# Altium footprint library Leadless.PcbLib: 132 footprints (part 7 of 9)
Each footprint in its own frame and in the unit in brackets; x right, y up, seen from the top. Pads: shape width x height; smd on the part's side, far side on the other; paste and mask are expansions set on the pad; w line width, h text height; cw(c..) or ccw(c..) is an arc to the next point about the centre after c.
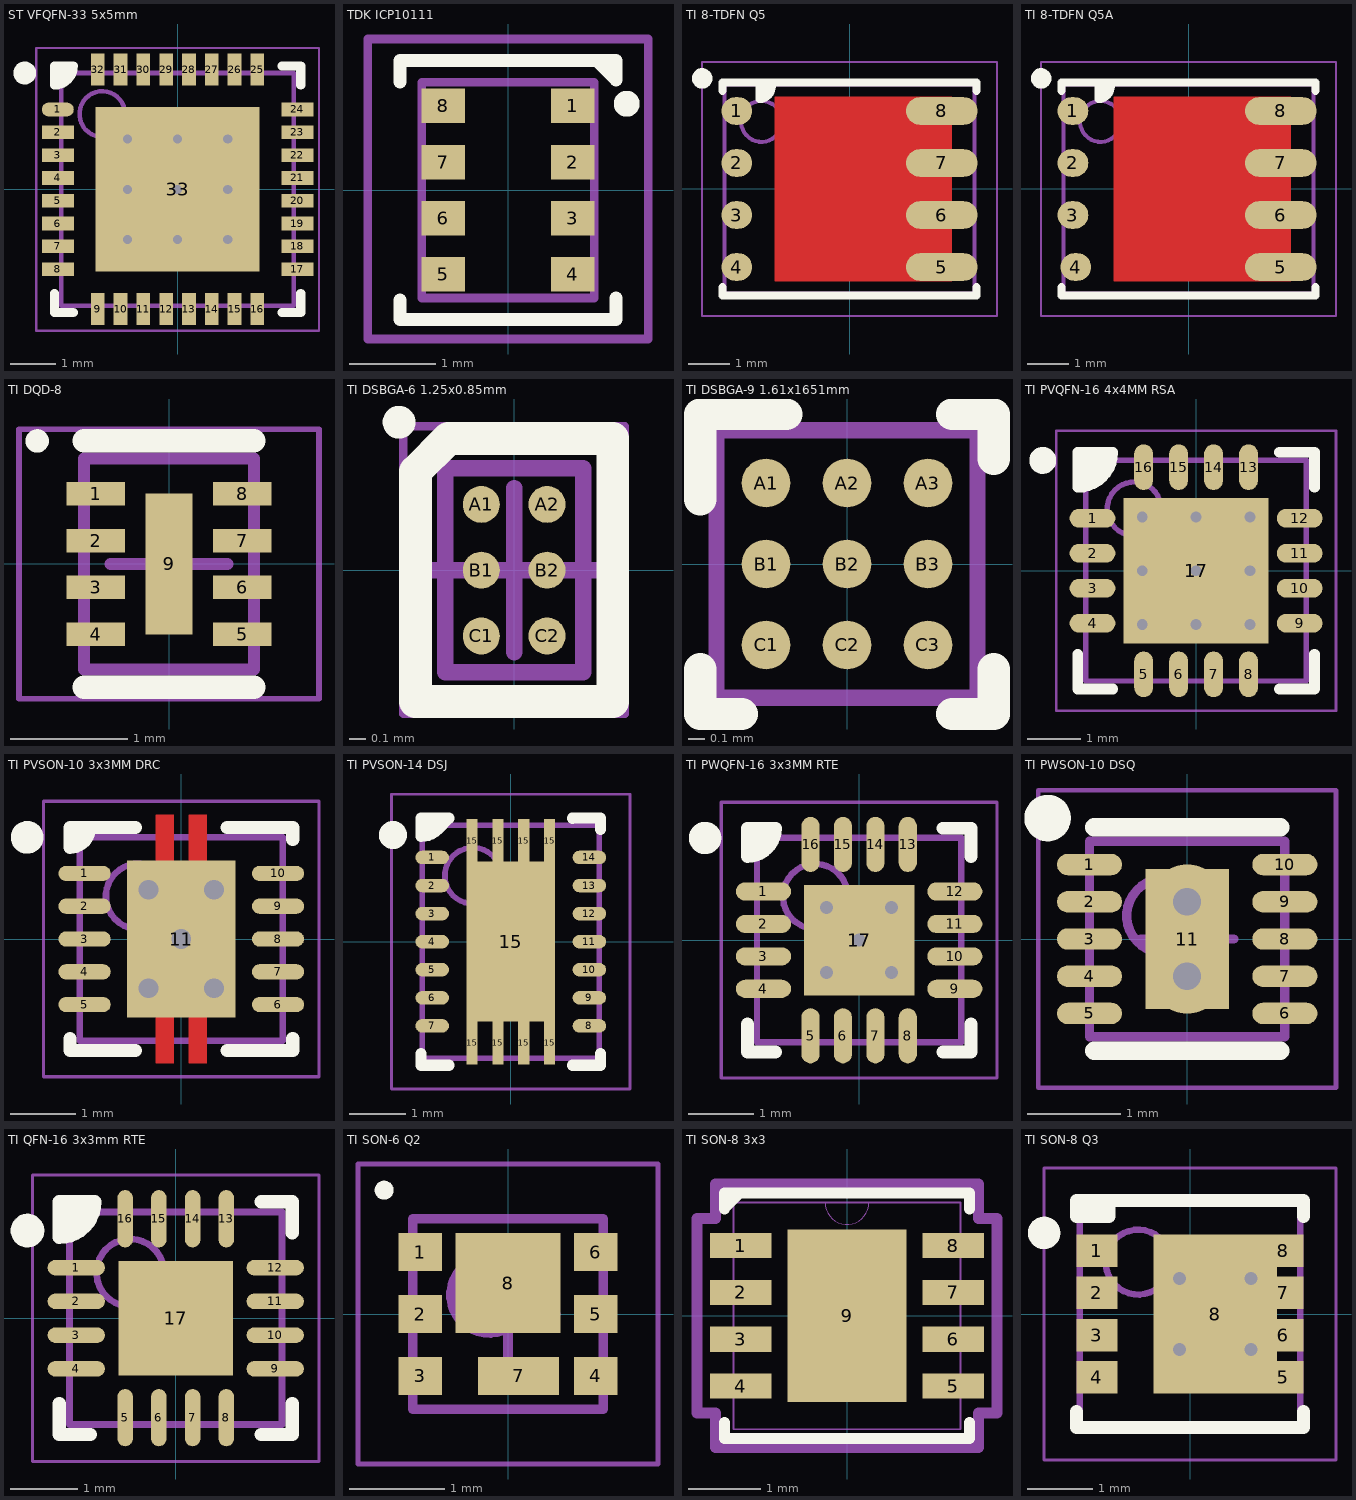
[diagram p6: the footprints below, top view; thin cyan lines are the x and y axes]

## ST VFQFN-33 5x5mm [mm] "QFN, 32-Leads, Body 5.00x5.00mm, Pitch 0.50mm, Thermal Pad 3.6x3.6mm, IPC Medium Density"
height 0.85
pads (33):
  oval 0.7x0.3 smd: 1(-2.625,1.75)
  rect 0.7x0.3 smd: 2(-2.625,1.25) 3(-2.625,0.75) 4(-2.625,0.25) 5(-2.625,-0.25) 6(-2.625,-0.75) 7(-2.625,-1.25) 8(-2.625,-1.75) 17(2.625,-1.75) 18(2.625,-1.25) 19(2.625,-0.75) 20(2.625,-0.25) 21(2.625,0.25) 22(2.625,0.75) 23(2.625,1.25) 24(2.625,1.75)
  rect 0.3x0.7 smd: 9(-1.75,-2.625) 10(-1.25,-2.625) 11(-0.75,-2.625) 12(-0.25,-2.625) 13(0.25,-2.625) 14(0.75,-2.625) 15(1.25,-2.625) 16(1.75,-2.625) 25(1.75,2.625) 26(1.25,2.625) 27(0.75,2.625) 28(0.25,2.625) 29(-0.25,2.625) 30(-0.75,2.625) 31(-1.25,2.625) 32(-1.75,2.625)
  rect 3.6x3.6 smd: 33(0,0)
via -1.1,1.1 diameter 0.5 hole 0.2
via 0,1.1 diameter 0.5 hole 0.2
via 1.1,1.1 diameter 0.5 hole 0.2
via -1.1,0 diameter 0.5 hole 0.2
via 0,0 diameter 0.5 hole 0.2
via 1.1,0 diameter 0.5 hole 0.2
via -1.1,-1.1 diameter 0.5 hole 0.2
via 0,-1.1 diameter 0.5 hole 0.2
via 1.1,-1.1 diameter 0.5 hole 0.2
Top Overlay:
  circle w0.25: c-3.35,2.55 r0.125
  region: -2.7,2.7 -2.285,2.7 -2.285,2.515 -2.515,2.285 -2.7,2.285
  lines w0.2: -2.7,-2.285 -2.7,-2.7 -2.285,-2.7 ; 2.285,-2.7 2.7,-2.7 2.7,-2.285 ; 2.285,2.7 2.7,2.7 2.7,2.285 ; -2.7,2.285 ccw(c-2.7,2.7) -2.285,2.7 -2.7,2.7 -2.7,2.285
Top Component Outline:
  circle w0.1: c-1.65,1.65 r0.5
  lines w0.1: -2.55,-2.55 -2.55,2.55 2.55,2.55 2.55,-2.55 -2.55,-2.55
Top Courtyard:
  lines w0.05: -3.1,-3.1 -3.1,3.1 3.1,3.1 3.1,-3.1 -3.1,-3.1
  lines w0.1: -0.5,0 0.5,0 ; 0,-0.5 0,0.5
3D body: height 0.85, standoff 0.01, extent -2.55,-2.55 2.55,2.55

## TDK ICP10111 [mm] "ICP-10110 and ICP-10111: 2x2.5x0.92 mm 8-pin LGA"
height 0.72
pads (8):
  rect 0.5x0.4 smd: 1(0.75,0.975) 2(0.75,0.325) 3(0.75,-0.325) 4(0.75,-0.975) 5(-0.75,-0.975) 6(-0.75,-0.325) 7(-0.75,0.325) 8(-0.75,0.975)
Top Overlay:
  lines w0.15: -1.25,1.25 -1.25,1.5 1.25,1.5 1.25,1.275 ; 1.25,-1.25 1.25,-1.5 -1.25,-1.5 -1.25,-1.275 ; -1.25,-1.275 -1.25,-1.275 ; -1.25,-1.275 -1.25,-1.275 ; 1.025,1.5 1.25,1.275 ; 1.025,1.5 1.025,1.5 ; 1.25,1.275 1.25,1.275 ; 1.25,1.275 1.25,1.275 ; -1.025,-1.5 -1.025,-1.5
  lines w0.2: 1.325,1 cw(c1.375,1) 1.425,1 cw(c1.375,1) 1.325,1
Top Component Outline:
  lines w0.1: -1,-1.25 -1,1.25 1,1.25 1,-1.25 -1,-1.25
Top Courtyard:
  lines w0.1: -1.625,-1.725 -1.625,1.75 1.625,1.75 1.625,-1.725 -1.625,-1.725
3D body "ICP-10111.stp": height 1.1, standoff 0, extent -1,-1.25 1,1.25

## TI 8-TDFN Q5 [mm] "TDFN, 8-Leads, Body 6.00x5.00mm, Pitch 1.27mm, Thermal Pad, IPC Medium Density"
height 1.05
pads (8):
  oval 0.75x0.675 smd: 1(-2.752,1.905) 2(-2.752,0.635) 3(-2.752,-0.635) 4(-2.752,-1.905)
  oval 1.75x0.675 smd: 5(2.253,-1.905) 6(2.253,-0.635) 7(2.253,0.635) 8(2.253,1.905)
Top Layer:
  region: -1.825,2.25 2.5,2.25 2.5,-2.25 -1.825,-2.25
Top Overlay:
  circle w0.25: c-3.6,2.7 r0.125
  region: -2.2,2.6 -2.2,2.2 -2.14,2.2 -2.03,2.246 -1.946,2.33 -1.9,2.44 -1.9,2.5 -1.9,2.6
  lines w0.2: -3.1,-2.4 -3.1,-2.6 3.1,-2.6 3.1,-2.4 ; -3.1,2.4 -3.1,2.6 3.1,2.6 3.1,2.4 ; -2.2,2.6 -2.2,2.2 ccw(c-2.2,2.5) -1.9,2.5 -1.9,2.6
Top Component Outline:
  circle w0.1: c-2.15,1.65 r0.5
  lines w0.1: -3.05,-2.55 3.05,-2.55 3.05,2.55 -3.05,2.55 -3.05,-2.55
Top Courtyard:
  lines w0.05: -3.6,-3.1 3.6,-3.1 3.6,3.1 -3.6,3.1 -3.6,-3.1
  lines w0.1: -0.5,0 0.5,0 ; 0,-0.5 0,0.5
3D body: height 1.05, standoff 0.01, extent -3.05,-2.55 3.05,2.55

## TI 8-TDFN Q5A [mm] "TDFN, 8-Leads, Body 6.00x5.00mm, Pitch 1.27mm, Thermal Pad, IPC Medium Density"
height 1.05
pads (8):
  oval 0.75x0.675 smd paste-1: 1(-2.822,1.905) 2(-2.822,0.635) 3(-2.822,-0.635) 4(-2.752,-1.905)
  oval 1.75x0.675 smd paste-1: 5(2.253,-1.905) 6(2.253,-0.635) 7(2.253,0.635) 8(2.253,1.905)
Top Layer:
  region: -1.825,2.25 2.5,2.25 2.5,-2.25 -1.825,-2.25
Top Overlay:
  circle w0.25: c-3.6,2.7 r0.125
  region: -2.2,2.6 -2.2,2.2 -2.14,2.2 -2.03,2.246 -1.946,2.33 -1.9,2.44 -1.9,2.5 -1.9,2.6
  lines w0.2: -3.1,-2.4 -3.1,-2.6 3.1,-2.6 3.1,-2.4 ; -3.1,2.4 -3.1,2.6 3.1,2.6 3.1,2.4 ; -2.2,2.6 -2.2,2.2 ccw(c-2.2,2.5) -1.9,2.5 -1.9,2.6
Top Paste:
  region: -2.52,2.155 -3.02,2.155 -3.02,1.655 -2.52,1.655
  region: -2.52,-1.655 -3.02,-1.655 -3.02,-2.155 -2.52,-2.155
  rectangle: 2.52,-2.155 3.02,-1.655
  rectangle: 2.52,1.655 3.02,2.155
  region: -2.52,0.885 -3.02,0.885 -3.02,0.385 -2.52,0.385
  region: -2.52,-0.385 -3.02,-0.385 -3.02,-0.885 -2.52,-0.885
  rectangle: 2.52,-0.885 3.02,-0.385
  rectangle: 2.52,0.385 3.02,0.885
  region: 1.835,1.88 0.25,1.88 0.25,0.31 1.835,0.31
  region: 1.835,-0.31 0.25,-0.31 0.25,-1.88 1.835,-1.88
  rectangle: -1.235,-1.88 -0.25,-0.31
  rectangle: -1.235,0.31 -0.25,1.88
Top Component Outline:
  circle w0.1: c-2.15,1.65 r0.5
  lines w0.1: -3.05,-2.55 -3.05,2.55 3.05,2.55 3.05,-2.55 -3.05,-2.55
Top Courtyard:
  lines w0.05: -3.6,-3.1 -3.6,3.1 3.6,3.1 3.6,-3.1 -3.6,-3.1
  lines w0.1: -0.5,0 0.5,0 ; 0,-0.5 0,0.5
3D body: height 1.05, standoff 0.01, extent -3.05,-2.55 3.05,2.55

## TI DQD-8 [mm] "SON, 8-Leads, Body 1,70x1,35mm, Pitch 0,40mm, Thermal Pad 1,15x0,00mm, IPC Medium Density"
height 0.8
pads (9):
  rect 0.5x0.2 smd: 1(-0.625,0.6) 2(-0.625,0.2) 3(-0.625,-0.2) 4(-0.625,-0.6) 5(0.625,-0.6) 6(0.625,-0.2) 7(0.625,0.2) 8(0.625,0.6)
  rect 0.4x1.2 smd: 9(0,0)
Top Overlay:
  circle w0.1: c-1.125,1.05 r0.05
  lines w0.2: -0.725,-1.05 0.725,-1.05 ; -0.725,1.05 0.725,1.05
Top Component Outline:
  lines w0.1: -0.725,-0.9 -0.725,0.9 0.725,0.9 0.725,-0.9 -0.725,-0.9
Top Courtyard:
  lines w0.05: -1.28,-1.15 -1.28,1.15 1.28,1.15 1.28,-1.15 -1.28,-1.15
  lines w0.1: -0.5,0 0.5,0 ; 0,-0.5 0,0.5
3D body "TI DQD-8.step": height 0.8, standoff 0, extent -0.775,-0.925 0.775,0.875

## TI DSBGA-6 1.25x0.85mm [mm] "BGA, 6-Leads, Body 0.84x1.24mmx0.68mm, Pitch 0.40mm"
height 0.68
pads (6):
  round 0.225 smd: A1(-0.2,0.4) A2(0.2,0.4) B1(-0.2,0) B2(0.2,0) C1(-0.2,-0.4) C2(0.2,-0.4)
Top Overlay:
  circle w0.1: c-0.7,0.9 r0.05
  lines w0.2: -0.6,-0.8 0.6,-0.8 0.6,0.8 -0.4,0.8 -0.6,0.6 -0.6,-0.8
Top Component Outline:
  lines w0.1: -0.42,-0.62 -0.42,0.62 0.42,0.62 0.42,-0.62 -0.42,-0.62
Top Courtyard:
  lines w0.05: -0.675,-0.875 -0.675,0.875 0.675,0.875 0.675,-0.875 -0.675,-0.875
  lines w0.1: -0.5,0 0.5,0 ; 0,-0.5 0,0.5
3D body: height 0.24, standoff -0.02, extent -0.325,0.275 -0.075,0.525
3D body: height 0.24, standoff -0.02, extent 0.075,0.275 0.325,0.525
3D body: height 0.24, standoff -0.02, extent 0.075,-0.125 0.325,0.125
3D body: height 0.24, standoff -0.02, extent -0.325,-0.125 -0.075,0.125
3D body: height 0.24, standoff -0.02, extent -0.325,-0.525 -0.075,-0.275
3D body: height 0.24, standoff -0.02, extent 0.075,-0.525 0.325,-0.275
3D body: height 0.68, standoff 0.17, extent -0.42,-0.62 0.42,0.62

## TI DSBGA-9 1.61x1651mm [mm] "DSBGA - 0.625 mm max heigh"
height 0.625
pads (9):
  round 0.3 smd paste-0.137 mask+0.051: A1(-0.5,0.5) A2(0,0.5) A3(0.5,0.5) B1(-0.5,0) B2(0,0) B3(0.5,0) C1(-0.5,-0.5) C2(0,-0.5) C3(0.5,-0.5)
Top Overlay:
  lines w0.2: -0.905,-0.65 -0.905,-0.926 -0.65,-0.926 ; -0.905,0.4 -0.905,0.926 -0.375,0.926 ; 0.65,-0.926 0.905,-0.926 0.905,-0.65 ; 0.65,0.926 0.905,0.926 0.905,0.65
Top Paste:
  circle w0.05: c0.4,-0.4 r0.025
  circle w0.05: c0.6,-0.4 r0.025
  circle w0.05: c0.6,-0.6 r0.025
  circle w0.05: c0.4,-0.6 r0.025
  circle w0.05: c-0.1,-0.4 r0.025
  circle w0.05: c0.1,-0.4 r0.025
  circle w0.05: c0.1,-0.6 r0.025
  circle w0.05: c-0.1,-0.6 r0.025
  circle w0.05: c-0.6,-0.4 r0.025
  circle w0.05: c-0.4,-0.4 r0.025
  circle w0.05: c-0.4,-0.6 r0.025
  circle w0.05: c-0.6,-0.6 r0.025
  circle w0.05: c0.4,0.1 r0.025
  circle w0.05: c0.6,0.1 r0.025
  circle w0.05: c0.6,-0.1 r0.025
  circle w0.05: c0.4,-0.1 r0.025
  circle w0.05: c-0.1,0.1 r0.025
  circle w0.05: c0.1,0.1 r0.025
  circle w0.05: c0.1,-0.1 r0.025
  circle w0.05: c-0.1,-0.1 r0.025
  circle w0.05: c-0.6,0.1 r0.025
  circle w0.05: c-0.4,0.1 r0.025
  circle w0.05: c-0.4,-0.1 r0.025
  circle w0.05: c-0.6,-0.1 r0.025
  circle w0.05: c0.4,0.6 r0.025
  circle w0.05: c0.6,0.6 r0.025
  circle w0.05: c0.6,0.4 r0.025
  circle w0.05: c0.4,0.4 r0.025
  circle w0.05: c-0.1,0.6 r0.025
  circle w0.05: c0.1,0.6 r0.025
  circle w0.05: c0.1,0.4 r0.025
  circle w0.05: c-0.1,0.4 r0.025
  circle w0.05: c-0.6,0.6 r0.025
  circle w0.05: c-0.4,0.6 r0.025
  circle w0.05: c-0.4,0.4 r0.025
  circle w0.05: c-0.6,0.4 r0.025
  region: 0.35,-0.4 0.35,-0.6 0.65,-0.6 0.65,-0.4
  region: 0.4,-0.65 0.6,-0.65 0.6,-0.35 0.4,-0.35
  region: -0.15,-0.4 -0.15,-0.6 0.15,-0.6 0.15,-0.4
  region: -0.1,-0.65 0.1,-0.65 0.1,-0.35 -0.1,-0.35
  region: -0.65,-0.4 -0.65,-0.6 -0.35,-0.6 -0.35,-0.4
  region: -0.6,-0.65 -0.4,-0.65 -0.4,-0.35 -0.6,-0.35
  region: 0.35,0.1 0.35,-0.1 0.65,-0.1 0.65,0.1
  region: 0.4,-0.15 0.6,-0.15 0.6,0.15 0.4,0.15
  region: -0.15,0.1 -0.15,-0.1 0.15,-0.1 0.15,0.1
  region: -0.1,-0.15 0.1,-0.15 0.1,0.15 -0.1,0.15
  region: -0.65,0.1 -0.65,-0.1 -0.35,-0.1 -0.35,0.1
  region: -0.6,-0.15 -0.4,-0.15 -0.4,0.15 -0.6,0.15
  region: 0.35,0.6 0.35,0.4 0.65,0.4 0.65,0.6
  region: 0.4,0.35 0.6,0.35 0.6,0.65 0.4,0.65
  region: -0.15,0.6 -0.15,0.4 0.15,0.4 0.15,0.6
  region: -0.1,0.35 0.1,0.35 0.1,0.65 -0.1,0.65
  region: -0.65,0.6 -0.65,0.4 -0.35,0.4 -0.35,0.6
  region: -0.6,0.35 -0.4,0.35 -0.4,0.65 -0.6,0.65
Top Component Outline:
  lines w0.1: -0.805,-0.826 -0.805,0.826 0.805,0.826 0.805,-0.826 -0.805,-0.826
3D body "TI DSBGA-9 1.61x1.651mm.STEP": height 0.63, standoff 0, extent -0.81,-0.79 0.81,0.79

## TI PVQFN-16 4x4MM RSA [mm] "QFN, 16-Leads, Body 4.00x4.00mm, Pitch 0.65mm, Thermal Pad 2.70x2.70mm, IPC Medium Density"
height 1
pads (17):
  oval 0.85x0.35 smd: 1(-1.925,0.975) 2(-1.925,0.325) 3(-1.925,-0.325) 4(-1.925,-0.975) 9(1.925,-0.975) 10(1.925,-0.325) 11(1.925,0.325) 12(1.925,0.975)
  oval 0.35x0.85 smd: 5(-0.975,-1.925) 6(-0.325,-1.925) 7(0.325,-1.925) 8(0.975,-1.925) 13(0.975,1.925) 14(0.325,1.925) 15(-0.325,1.925) 16(-0.975,1.925)
  rect 2.7x2.7 smd paste-5: 17(0,0)
via 0,0 diameter 0.5 hole 0.2
via -1,1 diameter 0.5 hole 0.2
via 0,1 diameter 0.5 hole 0.2
via 1,1 diameter 0.5 hole 0.2
via 1,0 diameter 0.5 hole 0.2
via 1,-1 diameter 0.5 hole 0.2
via 0,-1 diameter 0.5 hole 0.2
via -1,-1 diameter 0.5 hole 0.2
via -1,0 diameter 0.5 hole 0.2
Top Overlay:
  circle w0.25: c-2.85,2.05 r0.125
  region: -1.55,2.2 -2.2,2.2 -2.2,1.55 -1.95,1.55 -1.6,1.9
  lines w0.2: -2.2,-1.55 -2.2,-2.2 -1.55,-2.2 ; 1.55,-2.2 2.2,-2.2 2.2,-1.55 ; 1.55,2.2 2.2,2.2 2.2,1.55 ; -2.2,1.55 ccw(c-2.2,2.2) -1.55,2.2 -2.2,2.2 -2.2,1.55
Top Paste:
  region: -0.15,0.15 -1.25,0.15 -1.25,0.725 -0.725,1.25 -0.15,1.25
  region: 0.15,0.15 0.15,1.25 0.725,1.25 1.25,0.725 1.25,0.15
  region: 0.15,-0.15 1.25,-0.15 1.25,-0.725 0.725,-1.25 0.15,-1.25
  region: -0.15,-0.15 -1.25,-0.15 -1.25,-0.725 -0.725,-1.25 -0.15,-1.25
Top Component Outline:
  circle w0.1: c-1.15,1.15 r0.5
  lines w0.1: -2.05,-2.05 -2.05,2.05 2.05,2.05 2.05,-2.05 -2.05,-2.05
Top Courtyard:
  lines w0.05: -2.6,-2.6 -2.6,2.6 2.6,2.6 2.6,-2.6 -2.6,-2.6
  lines w0.1: -0.5,0 0.5,0 ; 0,-0.5 0,0.5
3D body: height 1, standoff 0.01, extent -2.05,-2.05 2.05,2.05

## TI PVSON-10 3x3MM DRC [mm] "PVSON, 10-Leads, Body 3.00x3.00mm, Pitch 0.50mm, Thermal Pad 1.65x2.40mm, IPC Medium Density"
height 1
pads (11):
  oval 0.8x0.23 smd: 1(-1.475,1) 2(-1.475,0.5) 3(-1.475,0) 4(-1.475,-0.5) 5(-1.475,-1) 6(1.475,-1) 7(1.475,-0.5) 8(1.475,0) 9(1.475,0.5) 10(1.475,1)
  rect 1.65x2.4 smd paste-5: 11(0,0)
via 0.5,0.75 diameter 0.6 hole 0.3
via -0.5,0.75 diameter 0.6 hole 0.3
via -0.5,-0.75 diameter 0.6 hole 0.3
via 0.5,-0.75 diameter 0.6 hole 0.3
via 0,0 diameter 0.6 hole 0.3
Top Layer:
  rectangle: 0.11,1.1 0.39,1.9
  region: -0.11,1.9 -0.39,1.9 -0.39,1.1 -0.11,1.1
  region: -0.11,-1.1 -0.39,-1.1 -0.39,-1.9 -0.11,-1.9
  rectangle: 0.11,-1.9 0.39,-1.1
Top Overlay:
  circle w0.25: c-2.35,1.55 r0.125
  region: -1.7,1.7 -1.4,1.7 -1.7,1.4
  lines w0.2: -1.7,-1.515 -1.7,-1.7 -0.7,-1.7 ; -1.4,1.7 cw(c-1.7,1.7) -1.7,1.4 ; -0.7,1.7 -1.7,1.7 -1.7,1.4 ; 0.7,-1.7 1.7,-1.7 1.7,-1.515 ; 0.7,1.7 1.7,1.7 1.7,1.515 ; -1.7,1.4 -1.7,1.4
Top Paste:
  rectangle: -0.38,-1.88 -0.12,-1.38
  region: 0.38,-1.38 0.12,-1.38 0.12,-1.88 0.38,-1.88
  region: 0.38,1.88 0.12,1.88 0.12,1.38 0.38,1.38
  rectangle: -0.38,1.38 -0.12,1.88
  rectangle: -0.79,-1.06 -0.11,-0.11
  region: 0.79,-0.11 0.11,-0.11 0.11,-1.06 0.79,-1.06
  region: 0.79,1.06 0.11,1.06 0.11,0.11 0.79,0.11
  rectangle: -0.79,0.11 -0.11,1.06
Top Component Outline:
  circle w0.1: c-0.65,0.65 r0.5
  lines w0.1: -1.55,-1.55 1.55,-1.55 1.55,1.55 -1.55,1.55 -1.55,-1.55
Top Courtyard:
  lines w0.05: -2.1,-2.1 2.1,-2.1 2.1,2.1 -2.1,2.1 -2.1,-2.1
  lines w0.1: -0.5,0 0.5,0 ; 0,-0.5 0,0.5
3D body: height 1, standoff 0.01, extent -1.55,-1.55 1.55,1.55

## TI PVSON-14 DSJ [mm] "VSON, 14-Leads, Body 3.00x4.00mm, Pitch 0.50mm, Thermal Pad 1.58x2.85mm, IPC Medium Density"
height 1
pads (23):
  oval 0.6x0.24 smd: 1(-1.4,1.5) 2(-1.4,1) 3(-1.4,0.5) 4(-1.4,0) 5(-1.4,-0.5) 6(-1.4,-1) 7(-1.4,-1.5) 8(1.4,-1.5) 9(1.4,-1) 10(1.4,-0.5) 11(1.4,0) 12(1.4,0.5) 13(1.4,1) 14(1.4,1.5)
  rect 0.2x0.775 smd: 15(-0.69,-1.8) 15(-0.69,1.8) 15(-0.23,-1.8) 15(-0.23,1.8) 15(0.23,-1.8) 15(0.23,1.8) 15(0.69,-1.8) 15(0.69,1.8)
  rect 1.58x2.85 smd: 15(0,0)
Top Overlay:
  circle w0.25: c-2.1,1.9 r0.125
  region: -1.6,2.2 -1.1,2.2 -1.425,1.875 -1.6,1.875
  lines w0.2: -1.6,-1.995 -1.6,-2.2 -1.1,-2.2 ; 1.1,-2.2 1.6,-2.2 1.6,-1.995 ; 1.1,2.2 cw(c1.112,2.188) 1.112,2.205 1.6,2.205 1.6,2 ; -1.6,1.875 ccw(c-1.6,2.297) -1.301,1.999 -1.1,2.2 -1.6,2.2 -1.6,1.875
Top Component Outline:
  circle w0.1: c-0.675,1.175 r0.5
  lines w0.1: -1.575,-2.075 -1.575,2.075 1.575,2.075 1.575,-2.075 -1.575,-2.075
Top Courtyard:
  lines w0.05: -2.125,-2.625 -2.125,2.625 2.125,2.625 2.125,-2.625 -2.125,-2.625
  lines w0.1: -0.5,0 0.5,0 ; 0,-0.5 0,0.5
3D body: height 1, standoff 0.08, extent -1.575,-2.075 1.575,2.075

## TI PWQFN-16 3x3MM RTE [mm] "QFN, 16-Leads, Body 3.00x3.00mm, Pitch 0.50mm, Thermal Pad 1.70x1.70mm, IPC Medium Density"
height 0.8
pads (17):
  oval 0.85x0.28 smd: 1(-1.475,0.75) 2(-1.475,0.25) 3(-1.475,-0.25) 4(-1.475,-0.75) 9(1.475,-0.75) 10(1.475,-0.25) 11(1.475,0.25) 12(1.475,0.75)
  oval 0.28x0.85 smd: 5(-0.75,-1.475) 6(-0.25,-1.475) 7(0.25,-1.475) 8(0.75,-1.475) 13(0.75,1.475) 14(0.25,1.475) 15(-0.25,1.475) 16(-0.75,1.475)
  rect 1.7x1.7 smd: 17(0,0)
via 0.5,-0.5 diameter 0.5 hole 0.2
via 0,0 diameter 0.5 hole 0.2
via -0.5,0.5 diameter 0.5 hole 0.2
via 0.5,0.5 diameter 0.5 hole 0.2
via -0.5,-0.5 diameter 0.5 hole 0.2
Top Overlay:
  circle w0.25: c-2.375,1.575 r0.125
  region: -1.29,1.725 -1.725,1.725 -1.725,1.29 -1.51,1.29 -1.4,1.4
  lines w0.2: -1.725,-1.29 -1.725,-1.725 -1.29,-1.725 ; 1.29,-1.725 1.725,-1.725 1.725,-1.29 ; 1.29,1.725 1.725,1.725 1.725,1.29 ; -1.725,1.29 ccw(c-1.725,1.725) -1.29,1.725 -1.725,1.725 -1.725,1.29
Top Component Outline:
  circle w0.1: c-0.675,0.675 r0.5
  lines w0.1: -1.575,-1.575 1.575,-1.575 1.575,1.575 -1.575,1.575 -1.575,-1.575
Top Courtyard:
  lines w0.05: -2.125,-2.125 2.125,-2.125 2.125,2.125 -2.125,2.125 -2.125,-2.125
  lines w0.1: -0.5,0 0.5,0 ; 0,-0.5 0,0.5
3D body: height 0.8, standoff 0.01, extent -1.575,-1.575 1.575,1.575

## TI PWSON-10 DSQ [mm] "DFN, 10-Leads, Body 2.00x2.00mm, Pitch 0.40mm, Thermal Pad 0.70x1.20mm, IPC Medium Density"
height 0.8
pads (11):
  oval 0.7x0.23 smd: 1(-1.05,0.8) 2(-1.05,0.4) 3(-1.05,0) 4(-1.05,-0.4) 5(-1.05,-0.8) 6(1.05,-0.8) 7(1.05,-0.4) 8(1.05,0) 9(1.05,0.4) 10(1.05,0.8)
  rect 0.9x1.5 smd mask-0.15: 11(0,0)
via 0,0.4 diameter 0.8 hole 0.3
via 0,-0.4 diameter 0.8 hole 0.3
Top Overlay:
  circle w0.25: c-1.5,1.3 r0.125
  lines w0.2: -1,-1.2 1,-1.2 ; -1,1.2 1,1.2
Top Component Outline:
  circle w0.1: c-0.25,0.25 r0.4
  lines w0.1: -1.05,-1.05 1.05,-1.05 1.05,1.05 -1.05,1.05 -1.05,-1.05
Top Courtyard:
  lines w0.05: -1.6,-1.6 1.6,-1.6 1.6,1.6 -1.6,1.6 -1.6,-1.6
  lines w0.1: -0.5,0 0.5,0 ; 0,-0.5 0,0.5
3D body: height 0.8, standoff 0.01, extent -1.05,-1.05 1.05,1.05

## TI QFN-16 3x3mm RTE [mm] "QFN, 16-Leads, Body 3.00x3.00mm, Pitch 0.50mm, Thermal Pad 1.70x1.70mm, IPC Medium Density"
height 0.8
pads (17):
  oval 0.85x0.23 smd: 1(-1.475,0.75) 2(-1.475,0.25) 3(-1.475,-0.25) 4(-1.475,-0.75) 9(1.475,-0.75) 10(1.475,-0.25) 11(1.475,0.25) 12(1.475,0.75)
  oval 0.23x0.85 smd: 5(-0.75,-1.475) 6(-0.25,-1.475) 7(0.25,-1.475) 8(0.75,-1.475) 13(0.75,1.475) 14(0.25,1.475) 15(-0.25,1.475) 16(-0.75,1.475)
  rect 1.7x1.7 smd: 17(0,0)
Top Overlay:
  circle w0.25: c-2.2,1.3 r0.125
  region: -1.2,1.725 -1.725,1.725 -1.725,1.2 -1.5,1.2 -1.3,1.4
  lines w0.2: -1.725,-1.265 -1.725,-1.725 -1.265,-1.725 ; 1.265,-1.725 1.725,-1.725 1.725,-1.265 ; 1.265,1.725 1.725,1.725 1.725,1.265 ; -1.725,1.2 ccw(c-1.725,1.725) -1.2,1.725 -1.725,1.725 -1.725,1.2
Top Component Outline:
  circle w0.1: c-0.675,0.675 r0.5
  lines w0.1: -1.575,-1.575 1.575,-1.575 1.575,1.575 -1.575,1.575 -1.575,-1.575
Top Courtyard:
  lines w0.05: -2.125,-2.125 2.125,-2.125 2.125,2.125 -2.125,2.125 -2.125,-2.125
  lines w0.1: -0.5,0 0.5,0 ; 0,-0.5 0,0.5
3D body: height 0.8, standoff 0, extent -1.575,-1.575 1.575,1.575

## TI SON-6 Q2 [mm] "SON, 6-Leads, Body 2.00x2.00mm, Pitch 0.65mm, Thermal Pad 1.10x1.05mm, IPC Medium Density"
height 0.8
pads (8):
  rect 0.455x0.4 smd: 1(-0.923,0.65) 2(-0.923,0) 3(-0.923,-0.65) 4(0.923,-0.65) 5(0.923,0) 6(0.923,0.65)
  rect 0.85x0.4 smd: 7(0.111,-0.65)
  rect 1.1x1.05 smd: 8(0,0.325)
Top Overlay:
  circle w0.1: c-1.3,1.3 r0.05
Top Component Outline:
  circle w0.1: c-0.2,0.2 r0.4
  lines w0.1: -1,-1 1,-1 1,1 -1,1 -1,-1
Top Courtyard:
  lines w0.05: -1.575,-1.575 1.575,-1.575 1.575,1.575 -1.575,1.575 -1.575,-1.575
  lines w0.1: -0.5,0 0.5,0 ; 0,-0.5 0,0.5
3D body: height 0.8, standoff 0.01, extent -1,-1 1,1

## TI SON-8 3x3 [mm]
height 1
pads (9):
  rect 0.85x0.35 smd paste-0.425: 1(-1.475,0.975) 2(-1.475,0.325) 3(-1.475,-0.325) 4(-1.475,-0.975) 5(1.475,-0.975) 6(1.475,-0.325) 7(1.475,0.325) 8(1.475,0.975)
  rect 1.65x2.4 smd paste-1.2 mask-1.181: 9(0,0)
Top Layer:
  region: 0,1.2
  region: 0,-1.2
Top Overlay:
  lines w0.152: -1.702,-1.483 -1.702,-1.702 1.702,-1.702 1.702,-1.483 ; -1.5,1.7 -1.7,1.5 -1.7,1.483 -1.7,1.704 1.702,1.704 ; 1.702,1.483 1.702,1.702
Top Paste:
  drawing of 22 lines, arcs and shapes, not listed
Top Solder:
  region: -0.98,1.22 -1.97,1.22 -1.97,0.73 -0.98,0.73
  region: -0.98,0.57 -1.97,0.57 -1.97,0.08 -0.98,0.08
  region: -0.98,-0.08 -1.97,-0.08 -1.97,-0.57 -0.98,-0.57
  region: -0.98,-0.73 -1.97,-0.73 -1.97,-1.22 -0.98,-1.22
  region: 1.97,-0.73 0.98,-0.73 0.98,-1.22 1.97,-1.22
  region: 1.97,-0.08 0.98,-0.08 0.98,-0.57 1.97,-0.57
  region: 1.97,0.57 0.98,0.57 0.98,0.08 1.97,0.08
  region: 1.97,1.22 0.98,1.22 0.98,0.73 1.97,0.73
  region: 0,1.2
  region: 0,-1.2
  region: -0.888,0.987 -0.888,1.264 0.888,1.264 0.888,0.987
  region: -0.888,0.2 -0.888,0.587 0.888,0.587 0.888,0.2
  region: -0.888,-0.587 -0.888,-0.2 0.888,-0.2 0.888,-0.587
  region: -0.888,-1.264 -0.888,-0.987 0.888,-0.987 0.888,-1.264
  region: -0.888,-1.264 -0.888,1.264 -0.594,1.264 -0.594,-1.264
  region: 0.194,-1.264 0.194,1.264 -0.194,1.264 -0.194,-1.264
  region: 0.594,-1.264 0.594,1.264 0.888,1.264 0.888,-1.264
Top Component Outline:
  lines w0: -0.305,1.575 ccw(c0,1.575) 0.305,1.575
  lines w0.025: -1.575,-1.575 1.575,-1.575 1.575,1.575 -1.575,1.575 -1.575,-1.575 ; -1.575,-1.16 -1.575,-0.79 -1.575,-1.16 ; -1.575,-0.51 -1.575,-0.14 -1.575,-0.51 ; -1.575,0.14 -1.575,0.51 -1.575,0.14 ; -1.575,0.79 -1.575,1.16 -1.575,0.79 ; 1.575,-1.16 1.575,-0.79 1.575,-1.16 ; 1.575,-0.51 1.575,-0.14 1.575,-0.51 ; 1.575,0.14 1.575,0.51 1.575,0.14 ; 1.575,0.79 1.575,1.16 1.575,0.79
Top Courtyard:
  lines w0.152: -2.083,-1.351 -2.083,1.351 -1.829,1.351 -1.829,1.829 1.829,1.829 1.829,1.351 2.083,1.351 2.083,-1.351 1.829,-1.351 1.829,-1.829 -1.829,-1.829 -1.829,-1.351 -2.083,-1.351
Bottom Courtyard:
  circle w0.127: c-0.394,-0.787 r0.191
  circle w0.127: c-0.394,0 r0.191
  circle w0.127: c-0.394,0.787 r0.191
  circle w0.127: c0.394,-0.787 r0.191
  circle w0.127: c0.394,0 r0.191
  circle w0.127: c0.394,0.787 r0.191
3D body "TI SON-8.step": height 1, standoff 0, extent -1.575,-1.575 1.575,1.575

## TI SON-8 Q3 [mm] "SON, 8-Leads, Body 3.30x3.30mm, Pitch 0.65mm, Thermal Pad 1.90x2.45mm, IPC Medium Density"
height 1.1
pads (9):
  rect 0.63x0.5 smd paste-3: 1(-1.435,0.975) 2(-1.435,0.325) 3(-1.435,-0.325) 4(-1.435,-0.975) 5(1.435,-0.975) 6(1.435,-0.325) 7(1.435,0.325) 8(1.435,0.975)
  rect 1.9x2.45 smd paste-3: 8(0.39,0)
via -0.16,0.55 diameter 0.5 hole 0.2
via 0.94,0.55 diameter 0.5 hole 0.2
via -0.16,-0.55 diameter 0.5 hole 0.2
via 0.94,-0.55 diameter 0.5 hole 0.2
Top Overlay:
  circle w0.25: c-2.25,1.25 r0.125
  rectangle: -1.75,1.5 -1.25,1.75
  lines w0.2: -1.75,-1.5 -1.75,-1.75 1.75,-1.75 1.75,-1.5 ; -1.25,1.75 -1.25,1.5 -1.75,1.5 -1.75,1.75 1.75,1.75 1.75,1.5
Top Paste:
  rectangle: -0.46,0.125 0.985,1.27
  rectangle: -0.46,-1.27 0.985,-0.125
  rectangle: 1.21,0.82 1.66,1.13
  rectangle: 1.21,-0.48 1.66,-0.17
  region: -1.21,-0.17 -1.66,-0.17 -1.66,-0.48 -1.21,-0.48
  region: -1.21,1.13 -1.66,1.13 -1.66,0.82 -1.21,0.82
  region: -1.21,0.48 -1.66,0.48 -1.66,0.17 -1.21,0.17
  rectangle: 1.21,0.17 1.66,0.48
  region: -1.21,-0.82 -1.66,-0.82 -1.66,-1.13 -1.21,-1.13
  rectangle: 1.21,-1.13 1.66,-0.82
Top Component Outline:
  circle w0.1: c-0.8,0.8 r0.5
  lines w0.1: -1.7,-1.7 -1.7,1.7 1.7,1.7 1.7,-1.7 -1.7,-1.7
Top Courtyard:
  lines w0.05: -2.25,-2.25 -2.25,2.25 2.25,2.25 2.25,-2.25 -2.25,-2.25
  lines w0.1: -0.5,0 0.5,0 ; 0,-0.5 0,0.5
3D body "TI SON-8 Q3.step": height 1.1, standoff 0, extent -1.71,-1.7 1.71,1.7